# Altium footprint library TYP_XLH.PcbLib: 1 footprints
Each footprint in its own frame and in the unit in brackets; x right, y up, seen from the top. Pads: shape width x height; smd on the part's side, far side on the other; paste and mask are expansions set on the pad; w line width, h text height; cw(c..) or ccw(c..) is an arc to the next point about the centre after c.
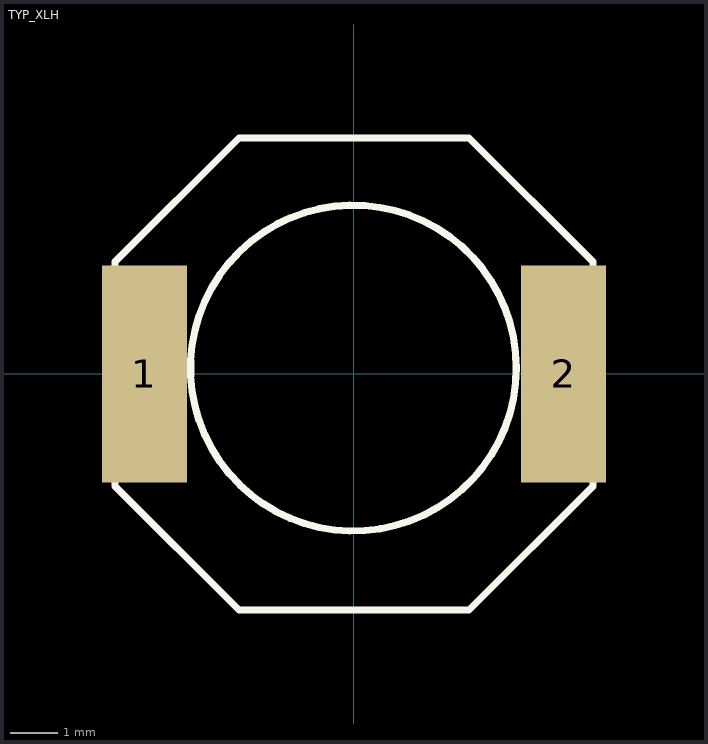
[diagram p0: the footprint, top view; thin cyan lines are the x and y axes]

## TYP_XLH [mm]
pads (2):
  rect 1.8x4.6 smd: 1(-4.437,0) 2(4.437,0)
Top Overlay:
  circle w0.152: c-0.012,0.125 r3.45
  lines w0.152: -5.062,-2.375 -5.062,2.375 -2.437,5 2.438,5 5.062,2.375 5.062,-2.375 2.438,-5 -2.437,-5 -5.062,-2.375
3D body: height 3.8, standoff 0, extent -5.063,-5.001 5.063,5.001